# EAGLE library part 65CE02 (library Mos65CE02)
* 65k Addressable Bytes of Memory (A0-A15) * #IRQ Interrupt * On Chip Clock: - TTL Level Single Phase Input - RC Time Base Input - Crystal Time Base Input * SYNC Signal (can be used for single instr. ex.) * RDY Signal (halt/signle ex.) * Two Phase Output Clock * #NMI Interrupt
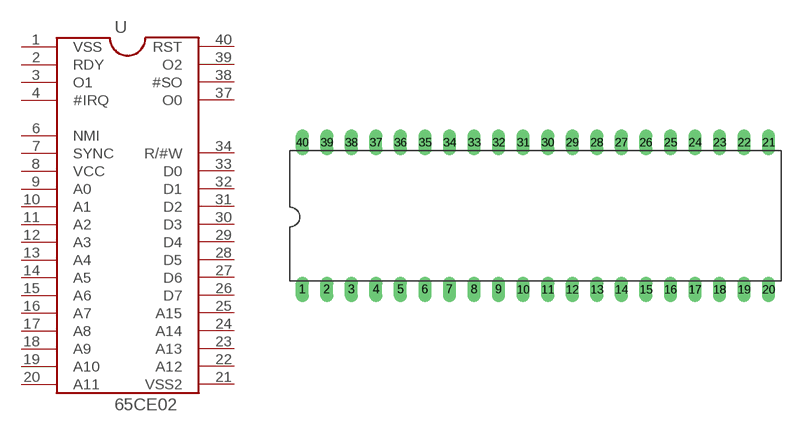
[diagram p0: symbol with the pads of DIL40; footprint DIL40]

Designator prefix -

## 65CE02  [DIL40]
1  VSS
2  RDY
3  O1
4  #IRQ
6  NMI
7  SYNC
8  VCC
9  A0
10  A1
11  A2
12  A3
13  A4
14  A5
15  A6
16  A7
17  A8
18  A9
19  A10
20  A11
21  VSS2
22  A12
23  A13
24  A14
25  A15
26  D7
27  D6
28  D5
29  D4
30  D3
31  D2
32  D1
33  D0
34  R/#W
37  O0
38  #SO
39  O2
40  RST

## Footprint DIL40 (pad centres in mm)
Dual In Line Package
drill 0.813 long: 1 -24.13,-7.62; 2 -21.59,-7.62; 3 -19.05,-7.62; 4 -16.51,-7.62; 5 -13.97,-7.62; 6 -11.43,-7.62; 7 -8.89,-7.62; 8 -6.35,-7.62; 9 -3.81,-7.62; 10 -1.27,-7.62; 11 1.27,-7.62; 12 3.81,-7.62; 13 6.35,-7.62; 14 8.89,-7.62; 15 11.43,-7.62; 16 13.97,-7.62; 17 16.51,-7.62; 18 19.05,-7.62; 19 21.59,-7.62; 20 24.13,-7.62; 21 24.13,7.62; 22 21.59,7.62; 23 19.05,7.62; 24 16.51,7.62; 25 13.97,7.62; 26 11.43,7.62; 27 8.89,7.62; 28 6.35,7.62; 29 3.81,7.62; 30 1.27,7.62; 31 -1.27,7.62; 32 -3.81,7.62; 33 -6.35,7.62; 34 -8.89,7.62; 35 -11.43,7.62; 36 -13.97,7.62; 37 -16.51,7.62; 38 -19.05,7.62; 39 -21.59,7.62; 40 -24.13,7.62